# Altium schematic symbol library TH Diodes.SchLib: 1 symbol
Pins are listed as number, name and electrical type; pins without a type are passive.

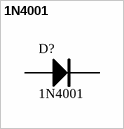
[diagram p0: symbol 1N4001]

## 1N4001
designator D?
footprint 1N400X
pins: A, K